# Altium footprint library FootPrintLib_6.PcbLib: 588 footprints (part 33 of 37)
Each footprint in its own frame and in the unit in brackets; x right, y up, seen from the top. Pads: shape width x height; smd on the part's side, far side on the other; paste and mask are expansions set on the pad; w line width, h text height; cw(c..) or ccw(c..) is an arc to the next point about the centre after c.
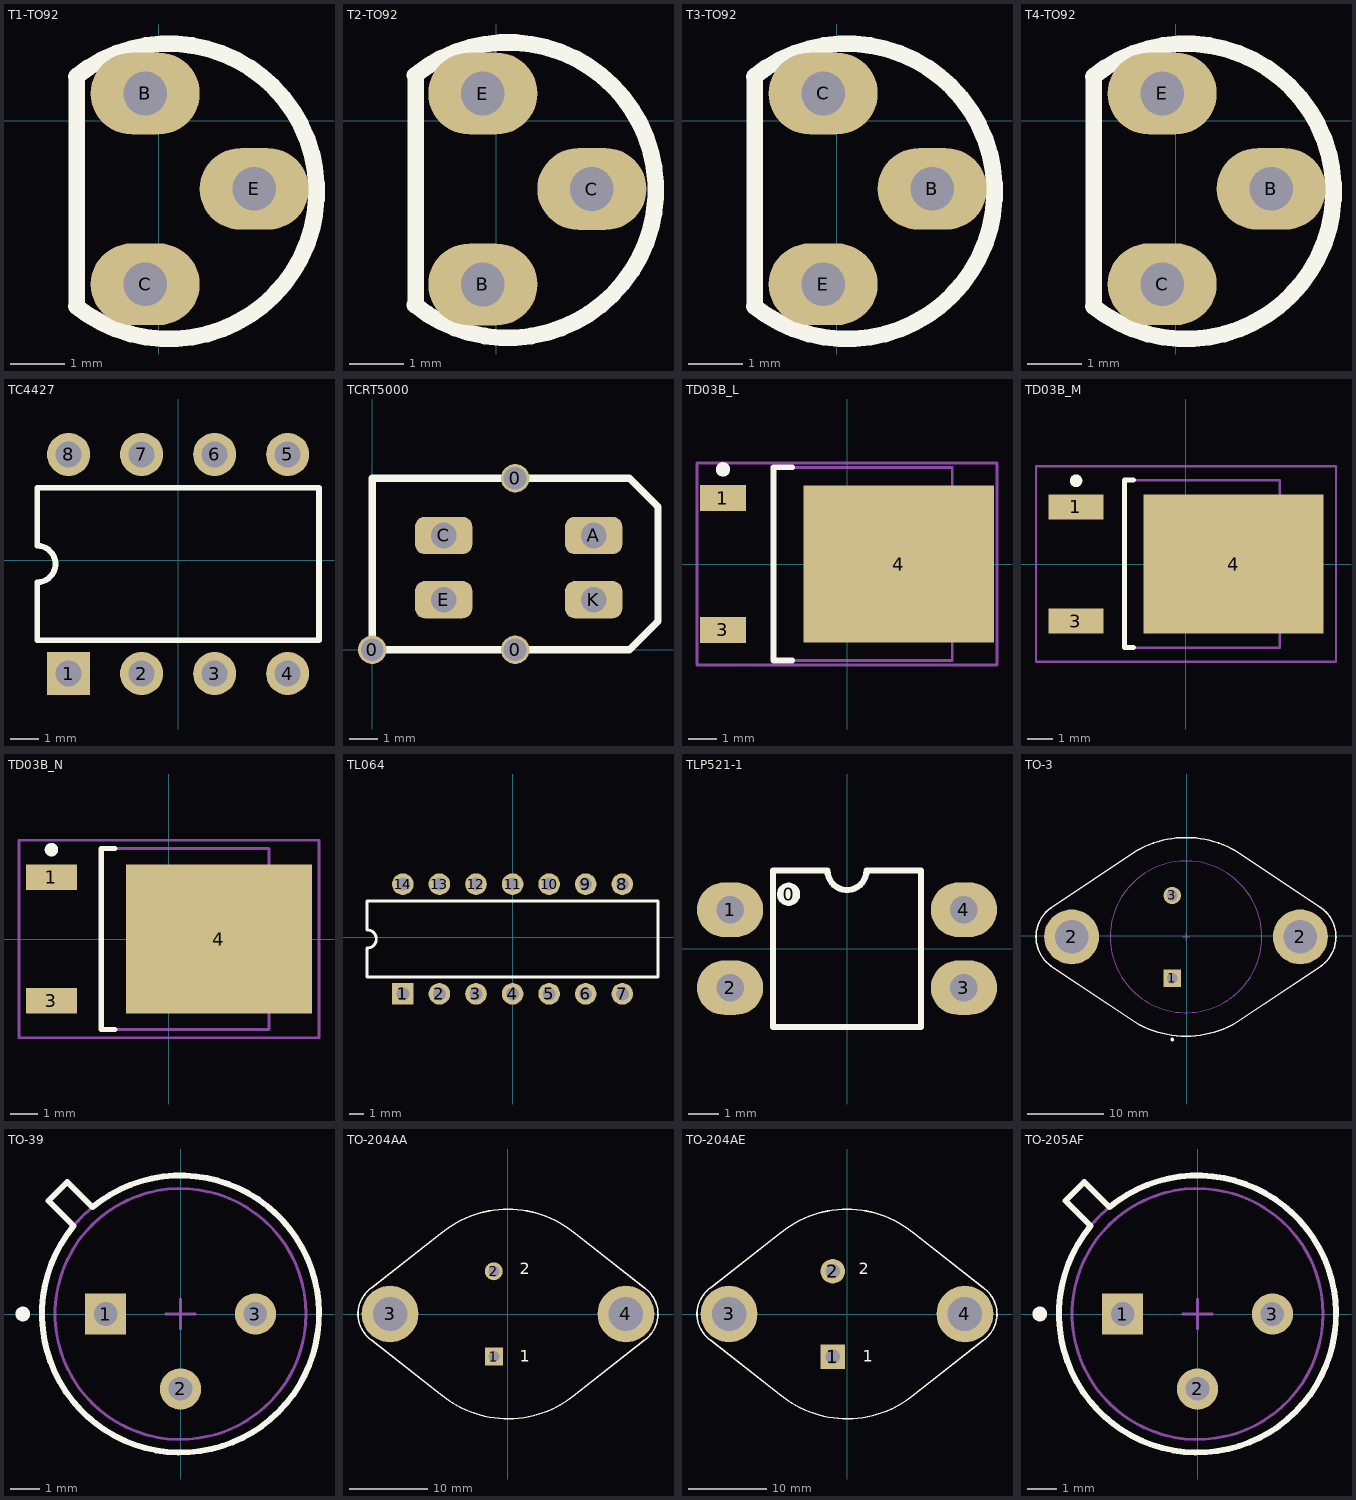
[diagram p32: the footprints below, top view; thin cyan lines are the x and y axes]

## T1-TO92 [mm]
pads (3):
  oval 2x1.5 hole 0.8: B(-0.25,0.5) C(-0.25,-3) E(1.75,-1.25)
Top Overlay:
  lines w0.305: -1.519,-3.401 ccw(c0.186,-1.295) -1.519,0.81 ; -1.507,-3.412 -1.507,0.821

## T2-TO92 [mm]
pads (3):
  oval 2x1.5 hole 0.8: B(-0.25,-3) C(1.75,-1.25) E(-0.25,0.5)
Top Overlay:
  lines w0.305: -1.493,-3.376 ccw(c0.212,-1.27) -1.493,0.836 ; -1.482,-3.387 -1.482,0.847

## T3-TO92 [mm]
pads (3):
  oval 2x1.5 hole 0.8: B(1.75,-1.25) C(-0.25,0.5) E(-0.25,-3)
Top Overlay:
  lines w0.305: -1.519,-3.401 ccw(c0.186,-1.295) -1.519,0.81 ; -1.507,-3.412 -1.507,0.821

## T4-TO92 [mm]
pads (3):
  oval 2x1.5 hole 0.8: B(1.75,-1.25) C(-0.25,-3) E(-0.25,0.5)
Top Overlay:
  lines w0.305: -1.519,-3.401 ccw(c0.186,-1.295) -1.519,0.81 ; -1.507,-3.412 -1.507,0.821

## TC4427 [mm]
pads (8):
  rect 1.5x1.5 hole 0.9: 1(-3.81,-3.937)
  round 1.5 hole 0.9: 2(-1.27,-3.937) 3(1.27,-3.937) 4(3.81,-3.937) 5(3.81,3.683) 6(1.27,3.683) 7(-1.27,3.683) 8(-3.81,3.683)
Top Overlay:
  lines w0.2: -4.9,-2.777 -4.9,-0.762 ccw(c-4.9,-0.127) -4.9,0.508 -4.9,2.523 4.9,2.523 4.9,-2.777 -4.9,-2.777

## TCRT5000 [mm] "IR Sensor 2LEDs"
pads (7):
  round 1 hole 0.8: 0(0,0) 0(5,0) 0(5,6)
  rrect50% 2x1.3 hole 0.9: A(7.75,4) C(2.5,4) E(2.5,1.75) K(7.75,1.75)
Top Overlay:
  lines w0.254: 0,0 9,0 10,1 10,5 9,6 0,6 0,0

## TD03B_L [mm] "D-PAK, 4-Leads, Body 6.1x6.6mm, Pitch 2.29mm, Lead Span 9.7mm, IPC High Density"
height 2.38
pads (3):
  rect 1.6x0.9 smd: 1(-4.3,2.28) 3(-4.3,-2.28)
  rect 6.6x5.45 smd: 4(1.8,0)
Top Overlay:
  circle w0.25: c-4.3,3.28 r0.125
  lines w0.2: -1.9,-3.35 -2.55,-3.35 -2.55,3.35 -1.9,3.35
Mechanical 13:
  lines w0.1: -2.55,-3.35 3.65,-3.35 3.65,3.35 -2.55,3.35 -2.55,-3.35
Mechanical 15:
  lines w0.1: -0.5,0 0.5,0 ; 0,-0.5 0,0.5 ; -5.2,-3.5 5.2,-3.5 5.2,3.5 -5.2,3.5 -5.2,-3.5
3D body "DPAK.STEP": height 2.34, standoff -0.07, extent -5.176,-3.27 4.762,3.27

## TD03B_M [mm] "D-PAK, 4-Leads, Body 6.1x6.6mm, Pitch 2.29mm, Lead Span 9.7mm, IPC Low Density"
height 2.38
pads (3):
  rect 2.2x1 smd: 1(-4.4,2.28) 3(-4.4,-2.28)
  rect 7.2x5.55 smd: 4(1.9,0)
Top Overlay:
  circle w0.25: c-4.4,3.33 r0.125
  lines w0.2: -2.1,-3.35 -2.45,-3.35 -2.45,3.35 -2.1,3.35
Mechanical 13:
  lines w0.1: -2.45,-3.35 3.75,-3.35 3.75,3.35 -2.45,3.35 -2.45,-3.35
Mechanical 15:
  lines w0.1: -0.5,0 0.5,0 ; 0,-0.5 0,0.5 ; -6,-3.9 6,-3.9 6,3.9 -6,3.9 -6,-3.9
3D body "DPAK.STEP": height 2.34, standoff -0.07, extent -5.176,-3.27 4.762,3.27

## TD03B_N [mm] "D-PAK, 4-Leads, Body 6.1x6.6mm, Pitch 2.29mm, Lead Span 9.7mm, IPC Medium Density"
height 2.38
pads (3):
  rect 1.9x0.95 smd: 1(-4.35,2.28) 3(-4.35,-2.28)
  rect 6.9x5.5 smd: 4(1.85,0)
Top Overlay:
  circle w0.25: c-4.35,3.305 r0.125
  lines w0.2: -2,-3.35 -2.5,-3.35 -2.5,3.35 -2,3.35
Mechanical 13:
  lines w0.1: -2.5,-3.35 -2.5,3.35 3.7,3.35 3.7,-3.35 -2.5,-3.35
Mechanical 15:
  lines w0.1: -0.5,0 0.5,0 ; 0,-0.5 0,0.5 ; -5.55,-3.65 -5.55,3.65 5.55,3.65 5.55,-3.65 -5.55,-3.65
3D body "DPAK.STEP": height 2.34, standoff -0.07, extent -5.176,-3.27 4.762,3.27

## TL064 [mm]
pads (14):
  rect 1.5x1.5 hole 0.9: 1(-7.62,-3.937)
  round 1.5 hole 0.9: 2(-5.08,-3.937) 3(-2.54,-3.937) 4(0,-3.937) 5(2.54,-3.937) 6(5.08,-3.937) 7(7.62,-3.937) 8(7.62,3.683) 9(5.08,3.683) 10(2.54,3.683) 11(0,3.683) 12(-2.54,3.683) 13(-5.08,3.683) 14(-7.62,3.683)
Top Overlay:
  lines w0.2: -10.1,-2.777 -10.1,-0.762 ccw(c-10.1,-0.127) -10.1,0.508 -10.1,2.523 10.1,2.523 10.1,-2.777 -10.1,-2.777

## TLP521-1 [mil]
pads (5):
  round 30 on Top Overlay: 0(-75,70)
  oval 85x70 hole 35.43: 1(-150,50) 2(-150,-50) 3(150,-50) 4(150,50)
Top Overlay:
  lines w7.87: -95,-100.39 95,-100.39 95,100.39 25,100.39 cw(c0,100.39) -25,100.39 -95,100.39 -95,-100.39

## TO-3 [mm]
pads (4):
  rect 2.3x2.3 hole 1.4: 1(-1.942,-5.587)
  round 7.25 hole 4.4: 2(-15.202,-0.127) 2(14.948,-0.127)
  round 2.3 hole 1.4: 3(-1.942,5.333)
Top Overlay:
  circle w0.25: c-1.942,-13.657 r0.125
  lines w0.2: -17.898,-3.977 cw(c-15.202,-0.127) -17.898,3.723 ; -17.898,-3.977 -6.677,-11.472 ccw(c-0.127,-0.127) 6.423,-11.472 17.644,-3.977 ; -17.898,3.723 -6.677,11.218 cw(c-0.127,-0.127) 6.423,11.218 17.644,3.723 ; 17.508,3.815 cw(c14.948,-0.127) 17.644,-3.977
Mechanical 13:
  circle w0.1: c-0.127,-0.127 r10
  lines w0.1: -17.898,-3.977 cw(c-15.202,-0.127) -17.898,3.723 ; -17.898,-3.977 -6.677,-11.472 ccw(c-0.127,-0.127) 6.423,-11.472 17.644,-3.977 ; -17.898,3.723 -6.677,11.218 cw(c-0.127,-0.127) 6.423,11.218 17.644,3.723 ; 17.508,3.815 cw(c14.948,-0.127) 17.644,-3.977
Mechanical 15:
  lines w0.1: -0.627,-0.127 0.373,-0.127 ; -0.127,-0.627 -0.127,0.373
3D body: height 1.7, standoff 0, extent -19.903,-13.228 19.649,12.974
3D body: height 8.7, standoff 1.7, extent -10.126,-10.126 9.872,9.872

## TO-39 [mm] "Can; 3 Leads; Pin Circle Dia. 5.08 mm; Lead Dia. 0.48 mm (max)"
height 4.55
pads (3):
  rect 1.4x1.4 hole 0.8: 1(-2.54,0)
  round 1.4 hole 0.8: 2(0,-2.54) 3(2.54,0)
Top Overlay:
  circle w0.25: c-5.35,0 r0.125
  lines w0.2: -3.626,2.99 -4.475,3.838 -3.838,4.475 -2.99,3.626 ; -3.622,2.987 ccw(c0,0) -2.987,3.622
Mechanical 13:
  circle w0.1: c0,0 r4.255
  circle w0.1: c0,0 r4.695
Mechanical 15:
  lines w0.1: -0.5,0 0.5,0 ; 0,-0.5 0,0.5
3D body: height 4.55, standoff 1.27, extent -4.254,-4.254 4.254,4.254
3D body: height 1.27, standoff 0, extent -4.694,-4.694 4.694,4.694

## TO-204AA [mm] "Oval Flange Mount with (2) Offset Leads; Pin Spacing 10.92 mm; Lead Dia. 1.07 mm (max)"
height 7.87
pads (4):
  rect 2.3x2.3 hole 1.4: 1(-1.815,-5.46)
  round 2.3 hole 1.4: 2(-1.815,5.46)
  round 7.25 hole 4.4: 3(-15.075,0) 4(15.075,0)
Top Overlay:
  lines w0.2: -17.427,-3.359 -8.299,-10.521 ; -17.427,-3.358 cw(c-15.075,0) -17.427,3.359 -8.299,10.521 ; -8.613,-10.265 ccw(c0,0) 8.298,-10.521 17.427,-3.359 ; -8.613,10.265 cw(c0,0) 8.613,10.265 ; 8.299,10.521 17.427,3.359 ; 17.308,3.439 cw(c15.075,0) 17.427,-3.358
  text "1" at 1.524,-6.096 h1.5
  text "2" at 1.524,5.08 h1.5

## TO-204AE [mm] "Oval Flange Mount with (2) Offset Leads; Pin Spacing 10.92 mm; Lead Dia. 1.57 mm (max)"
height 7.87
pads (4):
  rect 3.15x3.15 hole 1.9: 1(-1.815,-5.46)
  round 3.15 hole 1.9: 2(-1.815,5.46)
  round 7.25 hole 4.4: 3(-15.075,0) 4(15.075,0)
Top Overlay:
  lines w0.2: -17.427,-3.359 -8.299,-10.521 ; -17.427,-3.358 cw(c-15.075,0) -17.427,3.359 -8.299,10.521 ; -8.613,-10.265 ccw(c0,0) 8.298,-10.521 17.427,-3.359 ; -8.613,10.265 cw(c0,0) 8.613,10.265 ; 8.299,10.521 17.427,3.359 ; 17.308,3.439 cw(c15.075,0) 17.427,-3.358
  text "2" at 1.524,5.08 h1.5
  text "1" at 2.032,-6.096 h1.5

## TO-205AF [mm] "Can; 3 Leads; Pin Circle Dia. 5.08 mm; Lead Dia. 0.48 mm (max)"
height 4.55
pads (3):
  rect 1.4x1.4 hole 0.8: 1(-2.54,0)
  round 1.4 hole 0.8: 2(0,-2.54) 3(2.54,0)
Top Overlay:
  circle w0.25: c-5.35,0 r0.125
  lines w0.2: -3.626,2.99 -4.475,3.838 -3.838,4.475 -2.99,3.626 ; -3.622,2.987 ccw(c0,0) -2.987,3.622
Mechanical 13:
  circle w0.1: c0,0 r4.695
  circle w0.1: c0,0 r4.255
Mechanical 15:
  lines w0.1: -0.5,0 0.5,0 ; 0,-0.5 0,0.5
3D body: height 1.27, standoff 0, extent -4.694,-4.694 4.694,4.694
3D body: height 4.55, standoff 1.27, extent -4.254,-4.254 4.254,4.254